# Altium footprint library GBJ.PcbLib: 1 footprints
Each footprint in its own frame and in the unit in brackets; x right, y up, seen from the top. Pads: shape width x height; smd on the part's side, far side on the other; paste and mask are expansions set on the pad; w line width, h text height; cw(c..) or ccw(c..) is an arc to the next point about the centre after c.
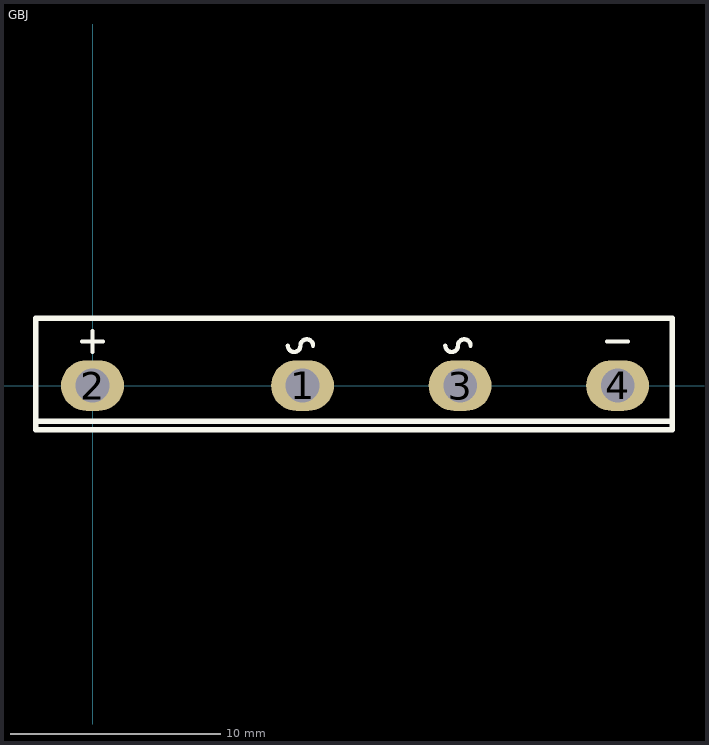
[diagram p0: the footprint, top view; thin cyan lines are the x and y axes]

## GBJ [mm]
pads (4):
  oval 3x2.4 hole 1.6: 1(10,0) 2(0,0) 3(17.5,0) 4(25,0)
Top Overlay:
  lines w0.203: -0.5,2.1 0.5,2.1 ; 0,1.6 0,2.6 ; 9.3,1.9 ccw(c9.6,1.9) 9.9,1.9 cw(c10.2,1.9) 10.5,1.9 ; 16.8,1.9 ccw(c17.1,1.9) 17.4,1.9 cw(c17.7,1.9) 18,1.9 ; 24.5,2.1 25.5,2.1
  lines w0.254: -2.7,-1.7 27.6,-1.7 ; -2.7,-2.1 -2.7,3.2 27.6,3.2 27.6,-2.1 -2.7,-2.1